# Altium footprint library LED.PCBLIB: 78 footprints (part 3 of 5)
Each footprint in its own frame and in the unit in brackets; x right, y up, seen from the top. Pads: shape width x height; smd on the part's side, far side on the other; paste and mask are expansions set on the pad; w line width, h text height; cw(c..) or ccw(c..) is an arc to the next point about the centre after c.
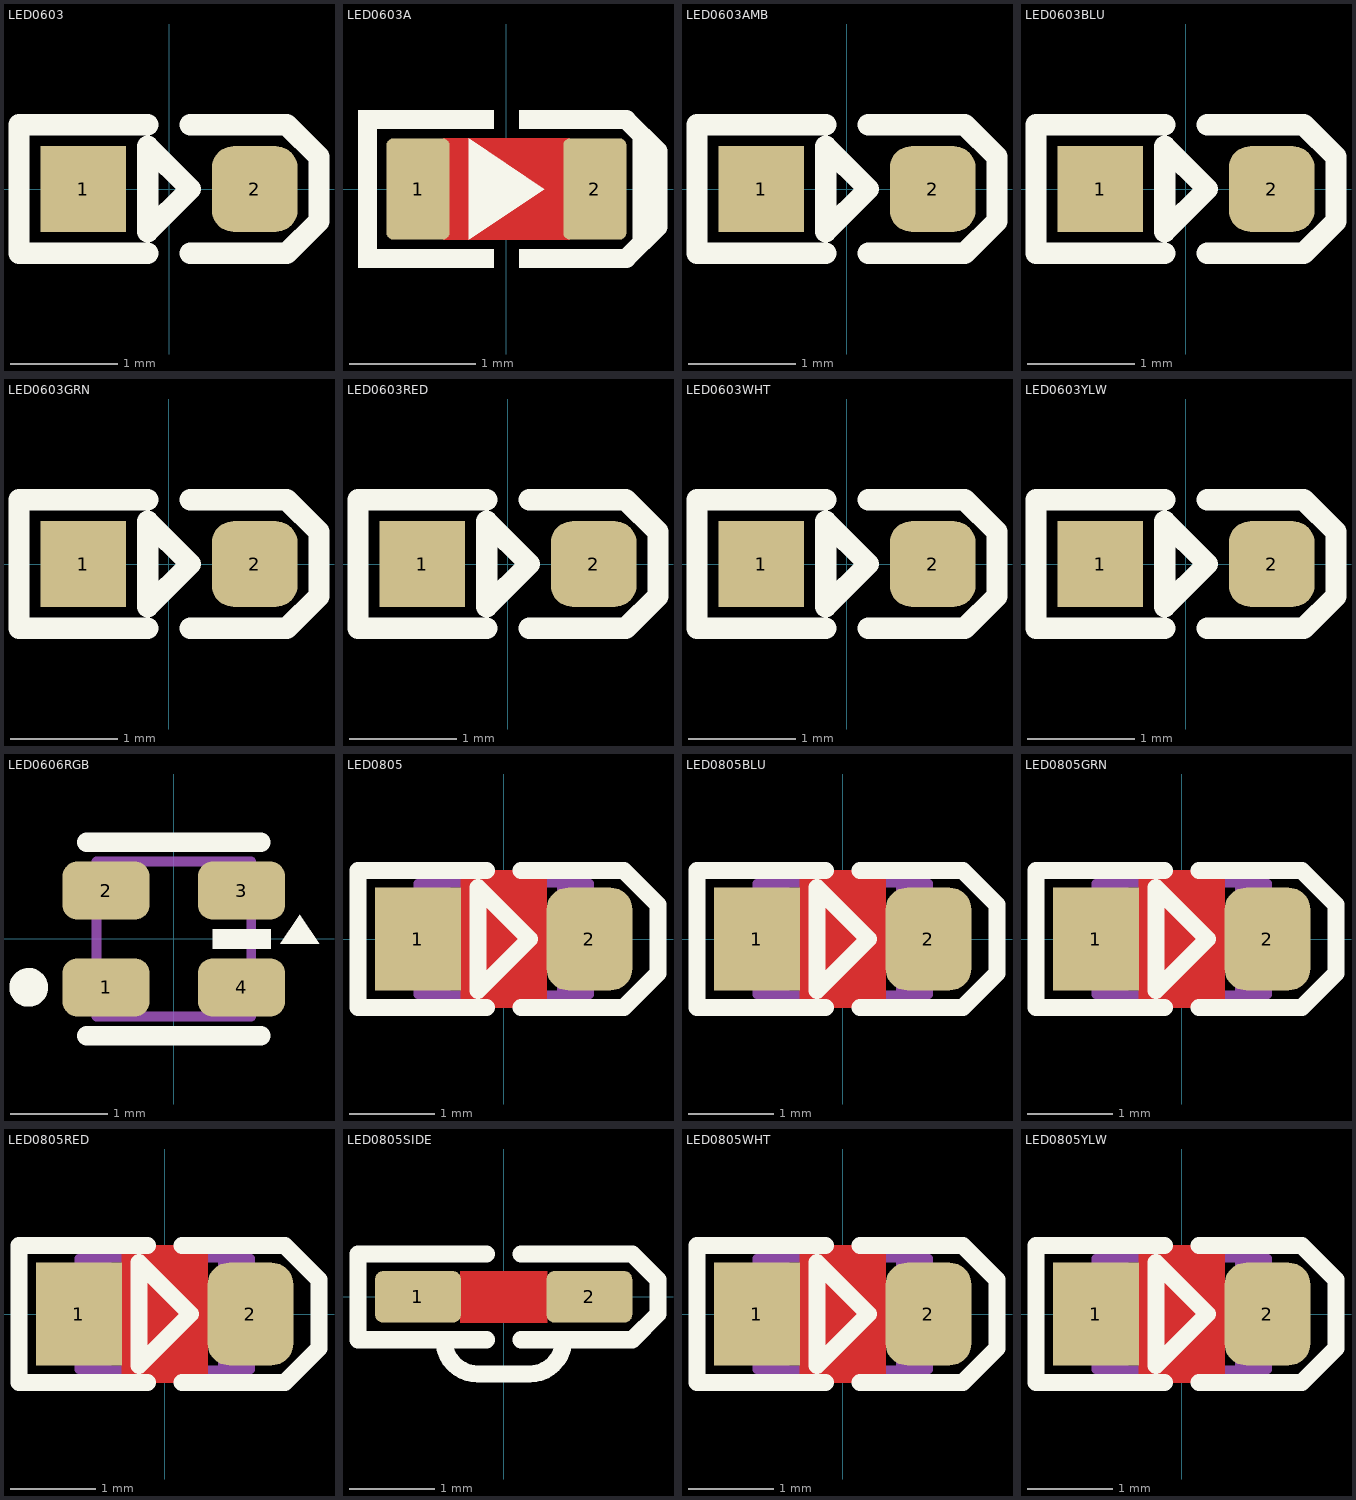
[diagram p2: the footprints below, top view; thin cyan lines are the x and y axes]

## LED0603 [mm] "LED SMD 0603"
pads (2):
  rect 0.8x0.8 smd paste-5 mask+0.075: 1(-0.8,0)
  rrect50% 0.8x0.8 smd paste-5 mask+0.075: 2(0.8,0)
TopOverlay:
  lines w0.2: -0.2,-0.6 -1.4,-0.6 -1.4,0.6 -0.2,0.6 ; 0.2,-0.6 1.1,-0.6 1.4,-0.3 1.4,0.3 1.1,0.6 0.2,0.6 ; -0.2,-0.4 -0.2,0.4 0.2,0 -0.2,-0.4
TopPaste:
  region: -0.75,0.35 -0.68,0.35 -0.552,0.297 -0.453,0.198 -0.4,0.07 -0.4,0 -0.4,-0.07 -0.453,-0.198 -0.552,-0.297 -0.68,-0.35 -0.75,-0.35 -0.95,-0.35 -0.98,-0.35 -1.035,-0.327 -1.077,-0.285 -1.1,-0.23 -1.1,-0.2 -1.1,0.2 -1.1,0.23 -1.077,0.285 -1.035,0.327 -0.98,0.35 -0.95,0.35
  region: 0.75,0.35 0.68,0.35 0.552,0.297 0.453,0.198 0.4,0.07 0.4,0 0.4,-0.07 0.453,-0.198 0.552,-0.297 0.68,-0.35 0.75,-0.35 0.95,-0.35 0.98,-0.35 1.035,-0.327 1.077,-0.285 1.1,-0.23 1.1,-0.2 1.1,0.2 1.1,0.23 1.077,0.285 1.035,0.327 0.98,0.35 0.95,0.35
3D body "User Library-LTST-C190GKT.STEP": height 0.9, standoff 0, extent -0.85,-0.45 0.85,0.45

## LED0603A [mm] "LED SMD 0603"
pads (2):
  rrect20% 0.5x0.8 smd mask+0.075: 1(-0.7,0) 2(0.7,0)
TopLayer:
  pour cut-out: -0.5,0.4 0.5,0.4 0.5,-0.4 -0.5,-0.4
TopOverlay:
  region: -0.1,-0.475 -0.1,-0.625 -1.175,-0.625 -1.175,-0.475
  region: 0.1,0.475 0.1,0.625 0.95,0.625 0.95,0.475
  region: 1,-0.5 1.2,-0.3 1.2,0.3 1,0.5
  region: 0.3,0 -0.3,0.4 -0.3,-0.4
  region: -0.1,0.475 -0.1,0.625 -1.175,0.625 -1.175,0.475
  region: 0.1,-0.475 0.1,-0.625 0.95,-0.625 0.95,-0.475
  lines w0.15: -1.1,-0.55 -1.1,0.55 ; 0.95,-0.55 1.2,-0.3 1.2,0.3 0.95,0.55
3D body "User Library-LTST-C190GKT.STEP": height 0.9, standoff 0, extent -0.85,-0.45 0.85,0.45

## LED0603AMB [mm] "LED SMD 0603, AMBER"
pads (2):
  rect 0.8x0.8 smd paste-5 mask+0.075: 1(-0.8,0)
  rrect50% 0.8x0.8 smd paste-5 mask+0.075: 2(0.8,0)
TopOverlay:
  lines w0.2: -0.2,-0.6 -1.4,-0.6 -1.4,0.6 -0.2,0.6 ; 0.2,-0.6 1.1,-0.6 1.4,-0.3 1.4,0.3 1.1,0.6 0.2,0.6 ; -0.2,-0.4 0.2,0 -0.2,0.4 -0.2,-0.4
TopPaste:
  region: 0.75,0.35 0.68,0.35 0.552,0.297 0.453,0.198 0.4,0.07 0.4,0 0.4,-0.07 0.453,-0.198 0.552,-0.297 0.68,-0.35 0.75,-0.35 0.95,-0.35 0.98,-0.35 1.035,-0.327 1.077,-0.285 1.1,-0.23 1.1,-0.2 1.1,0.2 1.1,0.23 1.077,0.285 1.035,0.327 0.98,0.35 0.95,0.35
  region: -0.75,0.35 -0.68,0.35 -0.552,0.297 -0.453,0.198 -0.4,0.07 -0.4,0 -0.4,-0.07 -0.453,-0.198 -0.552,-0.297 -0.68,-0.35 -0.75,-0.35 -0.95,-0.35 -0.98,-0.35 -1.035,-0.327 -1.077,-0.285 -1.1,-0.23 -1.1,-0.2 -1.1,0.2 -1.1,0.23 -1.077,0.285 -1.035,0.327 -0.98,0.35 -0.95,0.35
3D body: height 0.5, standoff 0, extent -0.4,-0.3 0.4,0.3
3D body: height 0.4, standoff 0, extent -0.6,-0.4 0.6,0.4
3D body: height 0.4, standoff 0, extent -0.8,-0.4 -0.6,0.4
3D body: height 0.4, standoff 0, extent 0.6,-0.4 0.8,0.4

## LED0603BLU [mm] "LED SMD 0603, BLUE"
pads (2):
  rect 0.8x0.8 smd paste-5 mask+0.075: 1(-0.8,0)
  rrect50% 0.8x0.8 smd paste-5 mask+0.075: 2(0.8,0)
TopOverlay:
  lines w0.2: -0.2,-0.6 -1.4,-0.6 -1.4,0.6 -0.2,0.6 ; 0.2,-0.6 1.1,-0.6 1.4,-0.3 1.4,0.3 1.1,0.6 0.2,0.6 ; -0.2,-0.4 0.2,0 -0.2,0.4 -0.2,-0.4
TopPaste:
  region: -0.75,0.35 -0.68,0.35 -0.552,0.297 -0.453,0.198 -0.4,0.07 -0.4,0 -0.4,-0.07 -0.453,-0.198 -0.552,-0.297 -0.68,-0.35 -0.75,-0.35 -0.95,-0.35 -0.98,-0.35 -1.035,-0.327 -1.077,-0.285 -1.1,-0.23 -1.1,-0.2 -1.1,0.2 -1.1,0.23 -1.077,0.285 -1.035,0.327 -0.98,0.35 -0.95,0.35
  region: 0.75,0.35 0.68,0.35 0.552,0.297 0.453,0.198 0.4,0.07 0.4,0 0.4,-0.07 0.453,-0.198 0.552,-0.297 0.68,-0.35 0.75,-0.35 0.95,-0.35 0.98,-0.35 1.035,-0.327 1.077,-0.285 1.1,-0.23 1.1,-0.2 1.1,0.2 1.1,0.23 1.077,0.285 1.035,0.327 0.98,0.35 0.95,0.35
3D body: height 0.5, standoff 0, extent -0.4,-0.3 0.4,0.3
3D body: height 0.4, standoff 0, extent -0.6,-0.4 0.6,0.4
3D body: height 0.4, standoff 0, extent -0.8,-0.4 -0.6,0.4
3D body: height 0.4, standoff 0, extent 0.6,-0.4 0.8,0.4

## LED0603GRN [mm] "LED SMD 0603, GREEN"
pads (2):
  rect 0.8x0.8 smd paste-5 mask+0.075: 1(-0.8,0)
  rrect50% 0.8x0.8 smd paste-5 mask+0.075: 2(0.8,0)
TopOverlay:
  lines w0.2: -0.2,-0.6 -1.4,-0.6 -1.4,0.6 -0.2,0.6 ; 0.2,-0.6 1.1,-0.6 1.4,-0.3 1.4,0.3 1.1,0.6 0.2,0.6 ; -0.2,-0.4 -0.2,0.4 0.2,0 -0.2,-0.4
TopPaste:
  region: -0.75,0.35 -0.68,0.35 -0.552,0.297 -0.453,0.198 -0.4,0.07 -0.4,0 -0.4,-0.07 -0.453,-0.198 -0.552,-0.297 -0.68,-0.35 -0.75,-0.35 -0.95,-0.35 -0.98,-0.35 -1.035,-0.327 -1.077,-0.285 -1.1,-0.23 -1.1,-0.2 -1.1,0.2 -1.1,0.23 -1.077,0.285 -1.035,0.327 -0.98,0.35 -0.95,0.35
  region: 0.75,0.35 0.68,0.35 0.552,0.297 0.453,0.198 0.4,0.07 0.4,0 0.4,-0.07 0.453,-0.198 0.552,-0.297 0.68,-0.35 0.75,-0.35 0.95,-0.35 0.98,-0.35 1.035,-0.327 1.077,-0.285 1.1,-0.23 1.1,-0.2 1.1,0.2 1.1,0.23 1.077,0.285 1.035,0.327 0.98,0.35 0.95,0.35
3D body: height 0.5, standoff 0, extent -0.4,-0.3 0.4,0.3
3D body: height 0.4, standoff 0, extent -0.6,-0.4 0.6,0.4
3D body: height 0.4, standoff 0, extent -0.8,-0.4 -0.6,0.4
3D body: height 0.4, standoff 0, extent 0.6,-0.4 0.8,0.4

## LED0603RED [mm] "LED SMD 0603, RED"
pads (2):
  rect 0.8x0.8 smd paste-5 mask+0.075: 1(-0.8,0)
  rrect50% 0.8x0.8 smd paste-5 mask+0.075: 2(0.8,0)
TopOverlay:
  lines w0.2: -0.2,-0.6 -1.4,-0.6 -1.4,0.6 -0.2,0.6 ; 0.2,-0.6 1.1,-0.6 1.4,-0.3 1.4,0.3 1.1,0.6 0.2,0.6 ; -0.2,-0.4 0.2,0 -0.2,0.4 -0.2,-0.4
TopPaste:
  region: -0.75,0.35 -0.68,0.35 -0.552,0.297 -0.453,0.198 -0.4,0.07 -0.4,0 -0.4,-0.07 -0.453,-0.198 -0.552,-0.297 -0.68,-0.35 -0.75,-0.35 -0.95,-0.35 -0.98,-0.35 -1.035,-0.327 -1.077,-0.285 -1.1,-0.23 -1.1,-0.2 -1.1,0.2 -1.1,0.23 -1.077,0.285 -1.035,0.327 -0.98,0.35 -0.95,0.35
  region: 0.75,0.35 0.68,0.35 0.552,0.297 0.453,0.198 0.4,0.07 0.4,0 0.4,-0.07 0.453,-0.198 0.552,-0.297 0.68,-0.35 0.75,-0.35 0.95,-0.35 0.98,-0.35 1.035,-0.327 1.077,-0.285 1.1,-0.23 1.1,-0.2 1.1,0.2 1.1,0.23 1.077,0.285 1.035,0.327 0.98,0.35 0.95,0.35
3D body: height 0.4, standoff 0, extent 0.6,-0.4 0.8,0.4
3D body: height 0.4, standoff 0, extent -0.8,-0.4 -0.6,0.4
3D body: height 0.4, standoff 0, extent -0.6,-0.4 0.6,0.4
3D body: height 0.5, standoff 0, extent -0.4,-0.3 0.4,0.3

## LED0603WHT [mm] "LED SMD 0603, WHITE"
pads (2):
  rect 0.8x0.8 smd paste-5 mask+0.075: 1(-0.8,0)
  rrect50% 0.8x0.8 smd paste-5 mask+0.075: 2(0.8,0)
TopOverlay:
  lines w0.2: -0.2,-0.6 -1.4,-0.6 -1.4,0.6 -0.2,0.6 ; 0.2,-0.6 1.1,-0.6 1.4,-0.3 1.4,0.3 1.1,0.6 0.2,0.6 ; -0.2,-0.4 -0.2,0.4 0.2,0 -0.2,-0.4
TopPaste:
  region: -0.75,0.35 -0.68,0.35 -0.552,0.297 -0.453,0.198 -0.4,0.07 -0.4,0 -0.4,-0.07 -0.453,-0.198 -0.552,-0.297 -0.68,-0.35 -0.75,-0.35 -0.95,-0.35 -0.98,-0.35 -1.035,-0.327 -1.077,-0.285 -1.1,-0.23 -1.1,-0.2 -1.1,0.2 -1.1,0.23 -1.077,0.285 -1.035,0.327 -0.98,0.35 -0.95,0.35
  region: 0.75,0.35 0.68,0.35 0.552,0.297 0.453,0.198 0.4,0.07 0.4,0 0.4,-0.07 0.453,-0.198 0.552,-0.297 0.68,-0.35 0.75,-0.35 0.95,-0.35 0.98,-0.35 1.035,-0.327 1.077,-0.285 1.1,-0.23 1.1,-0.2 1.1,0.2 1.1,0.23 1.077,0.285 1.035,0.327 0.98,0.35 0.95,0.35
3D body: height 0.5, standoff 0, extent -0.4,-0.3 0.4,0.3
3D body: height 0.4, standoff 0, extent -0.6,-0.4 0.6,0.4
3D body: height 0.4, standoff 0, extent -0.8,-0.4 -0.6,0.4
3D body: height 0.4, standoff 0, extent 0.6,-0.4 0.8,0.4

## LED0603YLW [mm] "LED SMD 0603, YELLOW"
pads (2):
  rect 0.8x0.8 smd paste-5 mask+0.075: 1(-0.8,0)
  rrect50% 0.8x0.8 smd paste-5 mask+0.075: 2(0.8,0)
TopOverlay:
  lines w0.2: -0.2,-0.6 -1.4,-0.6 -1.4,0.6 -0.2,0.6 ; 0.2,-0.6 1.1,-0.6 1.4,-0.3 1.4,0.3 1.1,0.6 0.2,0.6 ; -0.2,-0.4 0.2,0 -0.2,0.4 -0.2,-0.4
TopPaste:
  region: -0.75,0.35 -0.68,0.35 -0.552,0.297 -0.453,0.198 -0.4,0.07 -0.4,0 -0.4,-0.07 -0.453,-0.198 -0.552,-0.297 -0.68,-0.35 -0.75,-0.35 -0.95,-0.35 -0.98,-0.35 -1.035,-0.327 -1.077,-0.285 -1.1,-0.23 -1.1,-0.2 -1.1,0.2 -1.1,0.23 -1.077,0.285 -1.035,0.327 -0.98,0.35 -0.95,0.35
  region: 0.75,0.35 0.68,0.35 0.552,0.297 0.453,0.198 0.4,0.07 0.4,0 0.4,-0.07 0.453,-0.198 0.552,-0.297 0.68,-0.35 0.75,-0.35 0.95,-0.35 0.98,-0.35 1.035,-0.327 1.077,-0.285 1.1,-0.23 1.1,-0.2 1.1,0.2 1.1,0.23 1.077,0.285 1.035,0.327 0.98,0.35 0.95,0.35
3D body: height 0.4, standoff 0, extent 0.6,-0.4 0.8,0.4
3D body: height 0.4, standoff 0, extent -0.8,-0.4 -0.6,0.4
3D body: height 0.4, standoff 0, extent -0.6,-0.4 0.6,0.4
3D body: height 0.5, standoff 0, extent -0.4,-0.3 0.4,0.3

## LED0606RGB [mm] "1.6x1.6mm  RGB LED LTST-C19HE1WT"
height 0.6
pads (4):
  rrect50% 0.9x0.6 smd mask+0.05: 1(-0.7,-0.5) 2(-0.7,0.5) 3(0.7,0.5) 4(0.7,-0.5)
TopOverlay:
  circle w0.2: c-1.5,-0.5 r0.1
  region: 1.5,-0.05 1.1,-0.05 1.3,0.25
  region: 1,0.1 1,-0.1 0.4,-0.1 0.4,0.1
  lines w0.2: -0.9,-1 0.9,-1 ; -0.9,1 0.9,1
Mechanical13:
  lines w0.1: -0.8,-0.8 -0.8,0.8 0.8,0.8 0.8,-0.8 -0.8,-0.8
3D body "User Library-HSMF-C114.step": height 0.34, standoff -0.01, extent -0.8,-0.75 0.8,0.75

## LED0805 [mm] "LED SMD 0805"
height 1.4
pads (2):
  rect 1x1.2 smd paste-2 mask+0.075: 1(-1,0)
  rrect50% 1x1.2 smd paste-2 mask+0.075: 2(1,0)
TopLayer:
  pour cut-out: -0.5,0.8 0.5,0.8 0.5,-0.8 -0.5,-0.8
TopOverlay:
  lines w0.2: -0.2,-0.8 -1.7,-0.8 -1.7,0.8 -0.2,0.8 ; 0.2,-0.8 1.4,-0.8 1.8,-0.4 1.8,0.4 1.4,0.8 0.2,0.8 ; -0.3,-0.6 0.3,0 -0.3,0.6 -0.3,-0.6
TopPaste:
  region: 1,0.5 0.92,0.5 0.773,0.439 0.661,0.327 0.6,0.18 0.6,0.1 0.6,-0.1 0.6,-0.18 0.661,-0.327 0.773,-0.439 0.92,-0.5 1,-0.5 1.25,-0.5 1.28,-0.5 1.335,-0.477 1.377,-0.435 1.4,-0.38 1.4,-0.35 1.4,0.35 1.4,0.38 1.377,0.435 1.335,0.477 1.28,0.5 1.25,0.5
  region: -1,0.5 -0.92,0.5 -0.773,0.439 -0.661,0.327 -0.6,0.18 -0.6,0.1 -0.6,-0.1 -0.6,-0.18 -0.661,-0.327 -0.773,-0.439 -0.92,-0.5 -1,-0.5 -1.25,-0.5 -1.28,-0.5 -1.335,-0.477 -1.377,-0.435 -1.4,-0.38 -1.4,-0.35 -1.4,0.35 -1.4,0.38 -1.377,0.435 -1.335,0.477 -1.28,0.5 -1.25,0.5
Mechanical13:
  region: 0.995,-0.19 0.842,-0.19 0.842,-0.65 0.995,-0.65
  region: 0.995,0.65 0.842,0.65 0.842,0.191 0.995,0.191
  region: 0.848,0.65 0.619,0.65 0.619,-0.65 0.848,-0.65
  rectangle: -0.995,-0.65 -0.842,-0.191
  rectangle: -0.995,0.19 -0.842,0.65
  rectangle: -0.848,-0.65 -0.619,0.65
  lines w0.102: -0.305,0.356 -0.076,0.025 -0.33,0 -0.076,-0.33 ; 0.102,0.356 0.33,0.025 0.076,0 0.33,-0.33 ; -0.076,-0.33 -0.229,-0.279 -0.076,-0.178 -0.076,-0.33 ; 0.33,-0.33 0.178,-0.279 0.33,-0.178 0.33,-0.33 ; -1,-0.65 -1,-0.191 ccw(c-1,0) -1,0.191 -1,0.65 1,0.65 1,0.191 ccw(c1,0) 1,-0.191 1,-0.65 -1,-0.65
3D body "User Library-User Library-led_0805 GRE.step": height 1.1, standoff 0, extent -1.01,-0.625 1.01,0.625

## LED0805BLU [mm] "LED SMD 0805, BLUE"
height 1.4
pads (2):
  rect 1x1.2 smd paste-2 mask+0.075: 1(-1,0)
  rrect50% 1x1.2 smd paste-2 mask+0.075: 2(1,0)
TopLayer:
  pour cut-out: -0.5,0.8 0.5,0.8 0.5,-0.8 -0.5,-0.8
TopOverlay:
  lines w0.2: -0.2,-0.8 -1.7,-0.8 -1.7,0.8 -0.2,0.8 ; 0.2,-0.8 1.4,-0.8 1.8,-0.4 1.8,0.4 1.4,0.8 0.2,0.8 ; -0.3,-0.6 0.3,0 -0.3,0.6 -0.3,-0.6
TopPaste:
  region: -1,0.5 -0.92,0.5 -0.773,0.439 -0.661,0.327 -0.6,0.18 -0.6,0.1 -0.6,-0.1 -0.6,-0.18 -0.661,-0.327 -0.773,-0.439 -0.92,-0.5 -1,-0.5 -1.25,-0.5 -1.28,-0.5 -1.335,-0.477 -1.377,-0.435 -1.4,-0.38 -1.4,-0.35 -1.4,0.35 -1.4,0.38 -1.377,0.435 -1.335,0.477 -1.28,0.5 -1.25,0.5
  region: 1,0.5 0.92,0.5 0.773,0.439 0.661,0.327 0.6,0.18 0.6,0.1 0.6,-0.1 0.6,-0.18 0.661,-0.327 0.773,-0.439 0.92,-0.5 1,-0.5 1.25,-0.5 1.28,-0.5 1.335,-0.477 1.377,-0.435 1.4,-0.38 1.4,-0.35 1.4,0.35 1.4,0.38 1.377,0.435 1.335,0.477 1.28,0.5 1.25,0.5
Mechanical13:
  region: 0.995,-0.19 0.842,-0.19 0.842,-0.65 0.995,-0.65
  region: 0.995,0.65 0.842,0.65 0.842,0.191 0.995,0.191
  region: 0.848,0.65 0.619,0.65 0.619,-0.65 0.848,-0.65
  rectangle: -0.995,-0.65 -0.842,-0.191
  rectangle: -0.995,0.19 -0.842,0.65
  rectangle: -0.848,-0.65 -0.619,0.65
  lines w0.102: -0.305,0.356 -0.076,0.025 -0.33,0 -0.076,-0.33 ; 0.102,0.356 0.33,0.025 0.076,0 0.33,-0.33 ; -0.076,-0.33 -0.229,-0.279 -0.076,-0.178 -0.076,-0.33 ; 0.33,-0.33 0.178,-0.279 0.33,-0.178 0.33,-0.33 ; -1,-0.65 -1,-0.191 ccw(c-1,0) -1,0.191 -1,0.65 1,0.65 1,0.191 ccw(c1,0) 1,-0.191 1,-0.65 -1,-0.65
3D body "User Library-Wurth Elektronik WL-SMCW 0805 (2012) LED Lens (Separate Body).step": height 0.7, standoff 0.3, extent -0.7,-0.625 0.7,0.625
3D body "User Library-Wurth Elektronik WL-SMCW 0805 (2012) LED Base (Separate Lens).step": height 0.64, standoff 0, extent -1,-0.625 1,0.625

## LED0805GRN [mm] "LED SMD 0805, GREEN"
height 1.4
pads (2):
  rect 1x1.2 smd paste-2 mask+0.075: 1(-1,0)
  rrect50% 1x1.2 smd paste-2 mask+0.075: 2(1,0)
TopLayer:
  pour cut-out: -0.5,0.8 0.5,0.8 0.5,-0.8 -0.5,-0.8
TopOverlay:
  lines w0.2: -0.2,-0.8 -1.7,-0.8 -1.7,0.8 -0.2,0.8 ; 0.2,-0.8 1.4,-0.8 1.8,-0.4 1.8,0.4 1.4,0.8 0.2,0.8 ; -0.3,-0.6 -0.3,0.6 0.3,0 -0.3,-0.6
TopPaste:
  region: -1,0.5 -0.92,0.5 -0.773,0.439 -0.661,0.327 -0.6,0.18 -0.6,0.1 -0.6,-0.1 -0.6,-0.18 -0.661,-0.327 -0.773,-0.439 -0.92,-0.5 -1,-0.5 -1.25,-0.5 -1.28,-0.5 -1.335,-0.477 -1.377,-0.435 -1.4,-0.38 -1.4,-0.35 -1.4,0.35 -1.4,0.38 -1.377,0.435 -1.335,0.477 -1.28,0.5 -1.25,0.5
  region: 1,0.5 0.92,0.5 0.773,0.439 0.661,0.327 0.6,0.18 0.6,0.1 0.6,-0.1 0.6,-0.18 0.661,-0.327 0.773,-0.439 0.92,-0.5 1,-0.5 1.25,-0.5 1.28,-0.5 1.335,-0.477 1.377,-0.435 1.4,-0.38 1.4,-0.35 1.4,0.35 1.4,0.38 1.377,0.435 1.335,0.477 1.28,0.5 1.25,0.5
Mechanical13:
  rectangle: -0.848,-0.65 -0.619,0.65
  rectangle: -0.995,0.19 -0.842,0.65
  rectangle: -0.995,-0.65 -0.842,-0.191
  region: 0.848,0.65 0.619,0.65 0.619,-0.65 0.848,-0.65
  region: 0.995,0.65 0.842,0.65 0.842,0.191 0.995,0.191
  region: 0.995,-0.19 0.842,-0.19 0.842,-0.65 0.995,-0.65
  lines w0.102: -0.305,0.356 -0.076,0.025 -0.33,0 -0.076,-0.33 ; 0.102,0.356 0.33,0.025 0.076,0 0.33,-0.33 ; -0.076,-0.33 -0.076,-0.178 -0.229,-0.279 -0.076,-0.33 ; 0.33,-0.33 0.33,-0.178 0.178,-0.279 0.33,-0.33 ; -1,-0.65 1,-0.65 1,-0.19 cw(c1,0) 1,0.191 1,0.65 -1,0.65 -1,0.191 cw(c-1,0) -1,-0.191 -1,-0.65
3D body "User Library-Wurth Elektronik WL-SMCW 0805 (2012) LED Base (Separate Lens).step": height 0.64, standoff 0, extent -1,-0.625 1,0.625
3D body "User Library-Wurth Elektronik WL-SMCW 0805 (2012) LED Lens (Separate Body).step": height 0.7, standoff 0.3, extent -0.7,-0.625 0.7,0.625

## LED0805RED [mm] "LED SMD 0805, RED"
height 1.4
pads (2):
  rect 1x1.2 smd paste-2 mask+0.075: 1(-1,0)
  rrect50% 1x1.2 smd paste-2 mask+0.075: 2(1,0)
TopLayer:
  pour cut-out: -0.5,0.8 0.5,0.8 0.5,-0.8 -0.5,-0.8
TopOverlay:
  lines w0.2: -0.2,-0.8 -1.7,-0.8 -1.7,0.8 -0.2,0.8 ; 0.2,-0.8 1.4,-0.8 1.8,-0.4 1.8,0.4 1.4,0.8 0.2,0.8 ; -0.3,-0.6 0.3,0 -0.3,0.6 -0.3,-0.6
TopPaste:
  region: -1,0.5 -0.92,0.5 -0.773,0.439 -0.661,0.327 -0.6,0.18 -0.6,0.1 -0.6,-0.1 -0.6,-0.18 -0.661,-0.327 -0.773,-0.439 -0.92,-0.5 -1,-0.5 -1.25,-0.5 -1.28,-0.5 -1.335,-0.477 -1.377,-0.435 -1.4,-0.38 -1.4,-0.35 -1.4,0.35 -1.4,0.38 -1.377,0.435 -1.335,0.477 -1.28,0.5 -1.25,0.5
  region: 1,0.5 0.92,0.5 0.773,0.439 0.661,0.327 0.6,0.18 0.6,0.1 0.6,-0.1 0.6,-0.18 0.661,-0.327 0.773,-0.439 0.92,-0.5 1,-0.5 1.25,-0.5 1.28,-0.5 1.335,-0.477 1.377,-0.435 1.4,-0.38 1.4,-0.35 1.4,0.35 1.4,0.38 1.377,0.435 1.335,0.477 1.28,0.5 1.25,0.5
Mechanical13:
  region: 0.995,-0.19 0.842,-0.19 0.842,-0.65 0.995,-0.65
  region: 0.995,0.65 0.842,0.65 0.842,0.191 0.995,0.191
  region: 0.848,0.65 0.619,0.65 0.619,-0.65 0.848,-0.65
  rectangle: -0.995,-0.65 -0.842,-0.191
  rectangle: -0.995,0.19 -0.842,0.65
  rectangle: -0.848,-0.65 -0.619,0.65
  lines w0.102: -0.305,0.356 -0.076,0.025 -0.33,0 -0.076,-0.33 ; 0.102,0.356 0.33,0.025 0.076,0 0.33,-0.33 ; -0.076,-0.33 -0.229,-0.279 -0.076,-0.178 -0.076,-0.33 ; 0.33,-0.33 0.178,-0.279 0.33,-0.178 0.33,-0.33 ; -1,-0.65 -1,-0.191 ccw(c-1,0) -1,0.191 -1,0.65 1,0.65 1,0.191 ccw(c1,0) 1,-0.191 1,-0.65 -1,-0.65
3D body "User Library-Wurth Elektronik WL-SMCW 0805 (2012) LED Lens (Separate Body).step": height 0.7, standoff 0.3, extent -0.7,-0.625 0.7,0.625
3D body "User Library-Wurth Elektronik WL-SMCW 0805 (2012) LED Base (Separate Lens).step": height 0.64, standoff 0, extent -1,-0.625 1,0.625

## LED0805SIDE [mm] "LED SMD 0805 SIDE"
height 0.8
pads (2):
  rrect30% 1x0.6 smd: 1(-1,0) 2(1,0)
TopLayer:
  pour cut-out: 0.508,-0.3 -0.508,-0.3 -0.508,0.3 0.508,0.3
TopOverlay:
  lines w0.2: -0.7,-0.5 ccw(c-0.3,-0.5) -0.3,-0.9 0.3,-0.9 ccw(c0.3,-0.5) 0.7,-0.5 ; -0.2,-0.5 -1.7,-0.5 -1.7,0.5 -0.2,0.5 ; 0.2,-0.5 1.5,-0.5 1.8,-0.2 1.8,0.2 1.5,0.5 0.2,0.5
3D body "LED_SIDELED-2.1x0.6x1.0 WHITE maxtol.STEP": height 0.7, standoff 0, extent -1.1,-0.8 1.1,0.3

## LED0805WHT [mm] "LED SMD 0805, WHITE"
height 1.4
pads (2):
  rect 1x1.2 smd paste-2 mask+0.075: 1(-1,0)
  rrect50% 1x1.2 smd paste-2 mask+0.075: 2(1,0)
TopLayer:
  pour cut-out: -0.5,0.8 0.5,0.8 0.5,-0.8 -0.5,-0.8
TopOverlay:
  lines w0.2: -0.2,-0.8 -1.7,-0.8 -1.7,0.8 -0.2,0.8 ; 0.2,-0.8 1.4,-0.8 1.8,-0.4 1.8,0.4 1.4,0.8 0.2,0.8 ; -0.3,-0.6 -0.3,0.6 0.3,0 -0.3,-0.6
TopPaste:
  region: -1,0.5 -0.92,0.5 -0.773,0.439 -0.661,0.327 -0.6,0.18 -0.6,0.1 -0.6,-0.1 -0.6,-0.18 -0.661,-0.327 -0.773,-0.439 -0.92,-0.5 -1,-0.5 -1.25,-0.5 -1.28,-0.5 -1.335,-0.477 -1.377,-0.435 -1.4,-0.38 -1.4,-0.35 -1.4,0.35 -1.4,0.38 -1.377,0.435 -1.335,0.477 -1.28,0.5 -1.25,0.5
  region: 1,0.5 0.92,0.5 0.773,0.439 0.661,0.327 0.6,0.18 0.6,0.1 0.6,-0.1 0.6,-0.18 0.661,-0.327 0.773,-0.439 0.92,-0.5 1,-0.5 1.25,-0.5 1.28,-0.5 1.335,-0.477 1.377,-0.435 1.4,-0.38 1.4,-0.35 1.4,0.35 1.4,0.38 1.377,0.435 1.335,0.477 1.28,0.5 1.25,0.5
Mechanical13:
  rectangle: -0.848,-0.65 -0.619,0.65
  rectangle: -0.995,0.19 -0.842,0.65
  rectangle: -0.995,-0.65 -0.842,-0.191
  region: 0.848,0.65 0.619,0.65 0.619,-0.65 0.848,-0.65
  region: 0.995,0.65 0.842,0.65 0.842,0.191 0.995,0.191
  region: 0.995,-0.19 0.842,-0.19 0.842,-0.65 0.995,-0.65
  lines w0.102: -0.305,0.356 -0.076,0.025 -0.33,0 -0.076,-0.33 ; 0.102,0.356 0.33,0.025 0.076,0 0.33,-0.33 ; -0.076,-0.33 -0.076,-0.178 -0.229,-0.279 -0.076,-0.33 ; 0.33,-0.33 0.33,-0.178 0.178,-0.279 0.33,-0.33 ; -1,-0.65 1,-0.65 1,-0.19 cw(c1,0) 1,0.191 1,0.65 -1,0.65 -1,0.191 cw(c-1,0) -1,-0.191 -1,-0.65
3D body "User Library-Wurth Elektronik WL-SMCW 0805 (2012) LED Base (Separate Lens).step": height 0.64, standoff 0, extent -1,-0.625 1,0.625
3D body "User Library-Wurth Elektronik WL-SMCW 0805 (2012) LED Lens (Separate Body).step": height 0.7, standoff 0.3, extent -0.7,-0.625 0.7,0.625

## LED0805YLW [mm] "LED SMD 0805, YELLOW"
height 1.4
pads (2):
  rect 1x1.2 smd paste-2 mask+0.075: 1(-1,0)
  rrect50% 1x1.2 smd paste-2 mask+0.075: 2(1,0)
TopLayer:
  pour cut-out: -0.5,0.8 0.5,0.8 0.5,-0.8 -0.5,-0.8
TopOverlay:
  lines w0.2: -0.2,-0.8 -1.7,-0.8 -1.7,0.8 -0.2,0.8 ; 0.2,-0.8 1.4,-0.8 1.8,-0.4 1.8,0.4 1.4,0.8 0.2,0.8 ; -0.3,-0.6 -0.3,0.6 0.3,0 -0.3,-0.6
TopPaste:
  region: -1,0.5 -0.92,0.5 -0.773,0.439 -0.661,0.327 -0.6,0.18 -0.6,0.1 -0.6,-0.1 -0.6,-0.18 -0.661,-0.327 -0.773,-0.439 -0.92,-0.5 -1,-0.5 -1.25,-0.5 -1.28,-0.5 -1.335,-0.477 -1.377,-0.435 -1.4,-0.38 -1.4,-0.35 -1.4,0.35 -1.4,0.38 -1.377,0.435 -1.335,0.477 -1.28,0.5 -1.25,0.5
  region: 1,0.5 0.92,0.5 0.773,0.439 0.661,0.327 0.6,0.18 0.6,0.1 0.6,-0.1 0.6,-0.18 0.661,-0.327 0.773,-0.439 0.92,-0.5 1,-0.5 1.25,-0.5 1.28,-0.5 1.335,-0.477 1.377,-0.435 1.4,-0.38 1.4,-0.35 1.4,0.35 1.4,0.38 1.377,0.435 1.335,0.477 1.28,0.5 1.25,0.5
Mechanical13:
  rectangle: -0.848,-0.65 -0.619,0.65
  rectangle: -0.995,0.19 -0.842,0.65
  rectangle: -0.995,-0.65 -0.842,-0.191
  region: 0.848,0.65 0.619,0.65 0.619,-0.65 0.848,-0.65
  region: 0.995,0.65 0.842,0.65 0.842,0.191 0.995,0.191
  region: 0.995,-0.19 0.842,-0.19 0.842,-0.65 0.995,-0.65
  lines w0.102: -0.305,0.356 -0.076,0.025 -0.33,0 -0.076,-0.33 ; 0.102,0.356 0.33,0.025 0.076,0 0.33,-0.33 ; -0.076,-0.33 -0.076,-0.178 -0.229,-0.279 -0.076,-0.33 ; 0.33,-0.33 0.33,-0.178 0.178,-0.279 0.33,-0.33 ; -1,-0.65 1,-0.65 1,-0.19 cw(c1,0) 1,0.191 1,0.65 -1,0.65 -1,0.191 cw(c-1,0) -1,-0.191 -1,-0.65
3D body "User Library-Wurth Elektronik WL-SMCW 0805 (2012) LED Base (Separate Lens).step": height 0.64, standoff 0, extent -1,-0.625 1,0.625
3D body "User Library-Wurth Elektronik WL-SMCW 0805 (2012) LED Lens (Separate Body).step": height 0.7, standoff 0.3, extent -0.7,-0.625 0.7,0.625